# Altium footprint library LT-DE-16_V.PcbLib: 1 footprints
Each footprint in its own frame and in the unit in brackets; x right, y up, seen from the top. Pads: shape width x height; smd on the part's side, far side on the other; paste and mask are expansions set on the pad; w line width, h text height; cw(c..) or ccw(c..) is an arc to the next point about the centre after c.
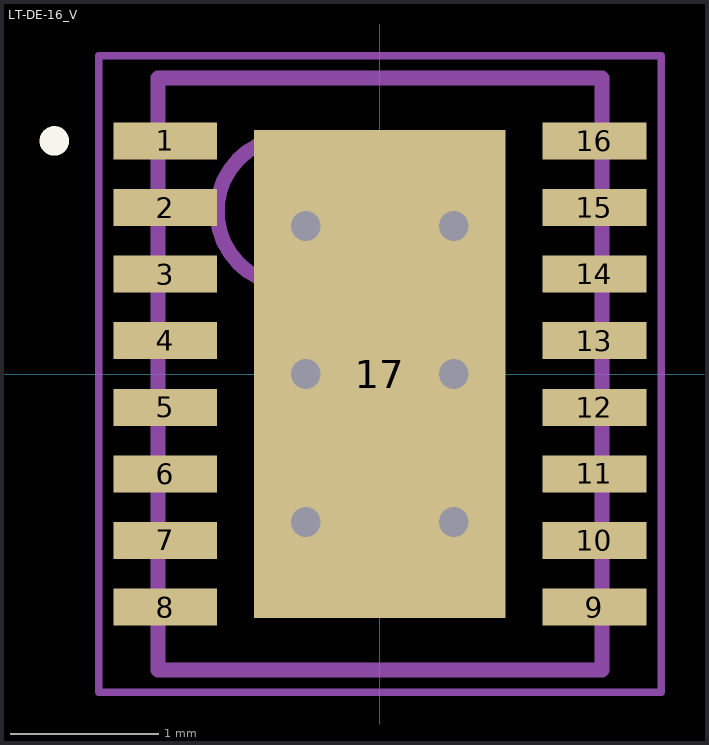
[diagram p0: the footprint, top view; thin cyan lines are the x and y axes]

## LT-DE-16_V [mm] "SON, 16-Leads, Body 4x3mm, Pitch 0.45mm, Thermal Pad 3.3x1.7mm"
height 0.8
pads (17):
  rect 0.7x0.25 smd mask+0.102: 1(-1.45,1.575) 2(-1.45,1.125) 3(-1.45,0.675) 4(-1.45,0.225) 5(-1.45,-0.225) 6(-1.45,-0.675) 7(-1.45,-1.125) 8(-1.45,-1.575) 9(1.45,-1.575) 10(1.45,-1.125) 11(1.45,-0.675) 12(1.45,-0.225) 13(1.45,0.225) 14(1.45,0.675) 15(1.45,1.125) 16(1.45,1.575)
  rect 1.7x3.3 smd mask+0.102: 17(0,0)
via -0.5,1 diameter 0.5 hole 0.2
via 0.5,1 diameter 0.5 hole 0.2
via -0.5,0 diameter 0.5 hole 0.2
via 0.5,0 diameter 0.5 hole 0.2
via -0.5,-1 diameter 0.5 hole 0.2
via 0.5,-1 diameter 0.5 hole 0.2
Top Overlay:
  circle w0.1: c-2.2,1.575 r0.05
Mechanical 13:
  circle w0.1: c-0.6,1.1 r0.5
  lines w0.1: -1.5,-2 -1.5,2 1.5,2 1.5,-2 -1.5,-2
Mechanical 15:
  lines w0.05: -1.9,-2.15 -1.9,2.15 1.9,2.15 1.9,-2.15 -1.9,-2.15
  lines w0.1: -0.5,0 0.5,0 ; 0,-0.5 0,0.5
3D body: height 0.8, standoff 0, extent -1.5,-2 1.5,2